# Altium schematic symbol library CMT-7525-80-SMT.Schlib: 1 symbol
Pins are listed as number, name and electrical type; pins without a type are passive.

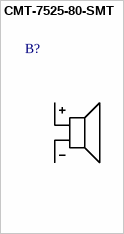
[diagram p0: symbol CMT-7525-80-SMT]

## CMT-7525-80-SMT
designator B?
Buzzer
pins: 1 +, 2 -